# Altium footprint library Lib Marius.PcbLib: 393 footprints (part 10 of 25)
Each footprint in its own frame and in the unit in brackets; x right, y up, seen from the top. Pads: shape width x height; smd on the part's side, far side on the other; paste and mask are expansions set on the pad; w line width, h text height; cw(c..) or ccw(c..) is an arc to the next point about the centre after c.
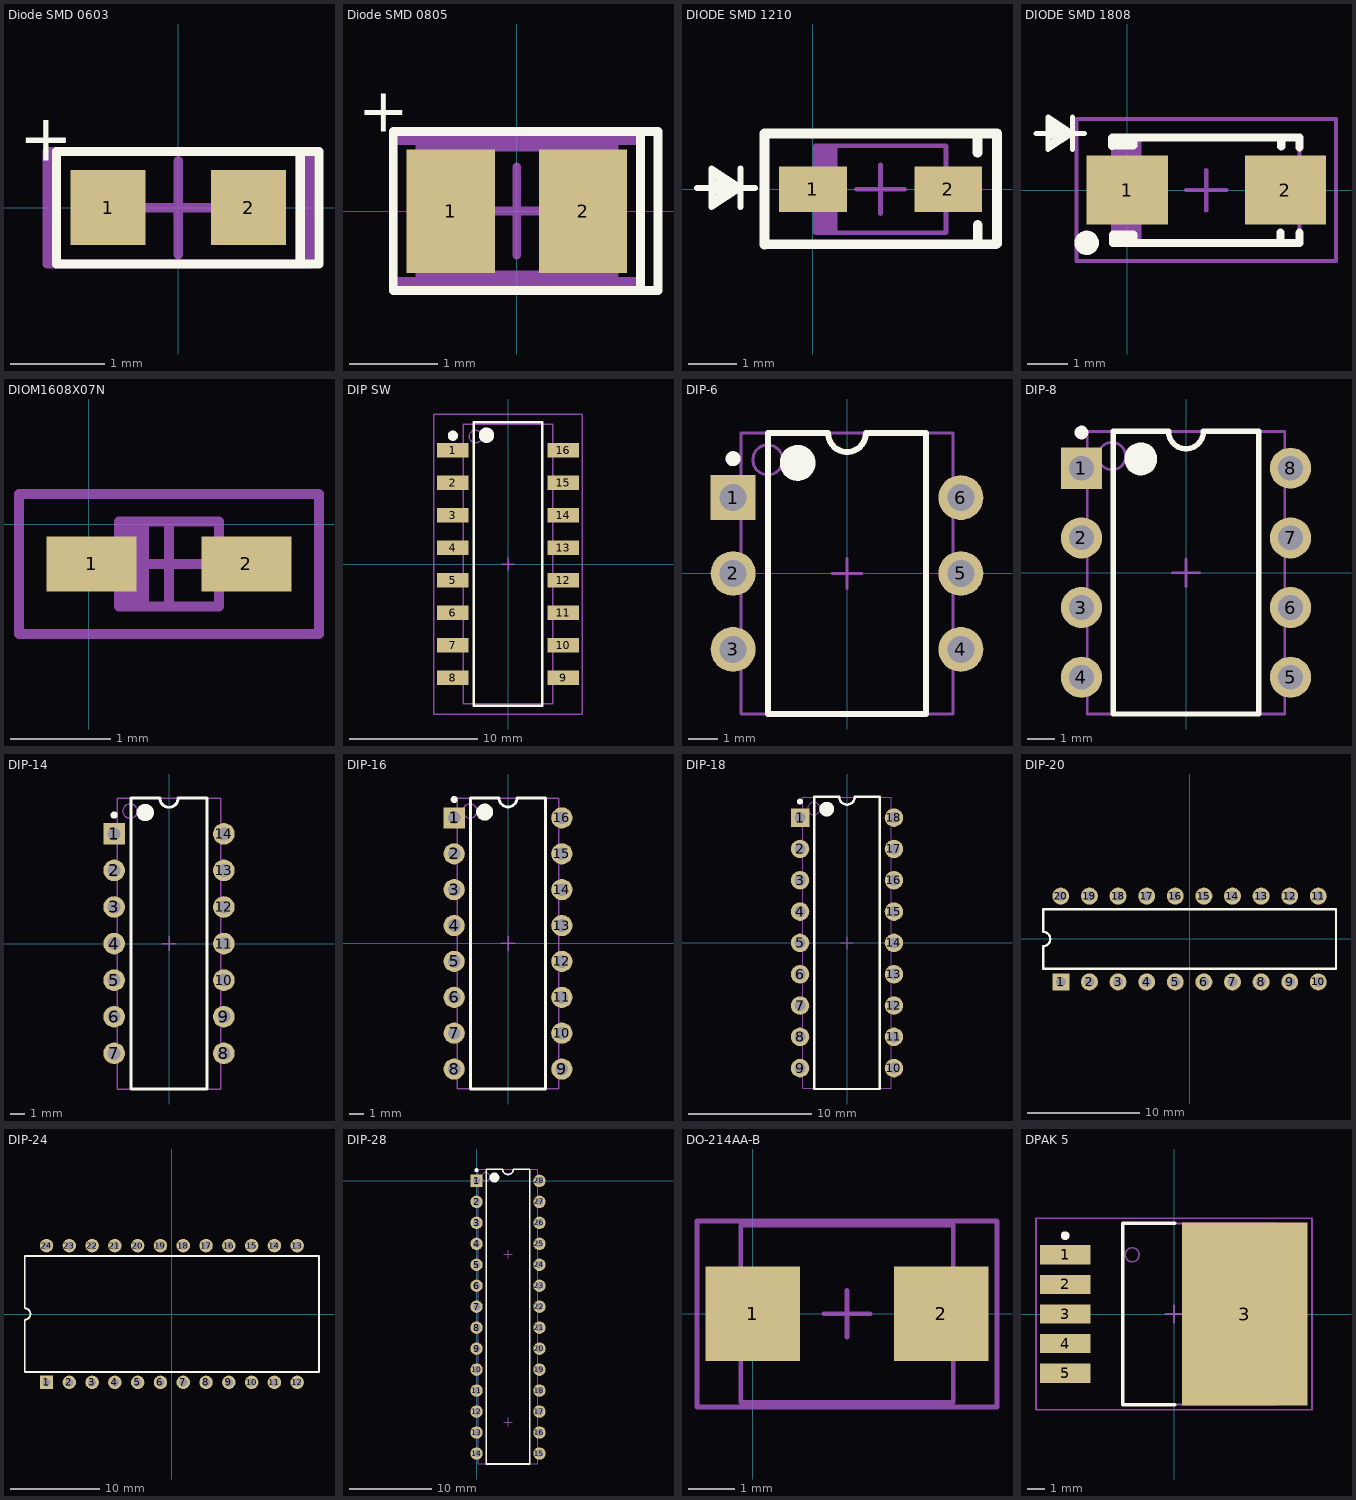
[diagram p9: the footprints below, top view; thin cyan lines are the x and y axes]

## Diode SMD 0603 [mm] "0603 Diode"
height 0.5
pads (2):
  rect 0.8x0.8 smd: 1(-0.75,0) 2(0.75,0)
Top Overlay:
  lines w0.1: 1.3,-0.6 1.5,-0.6 1.5,0.6 1.3,0.6 ; 1.3,-0.6 1.3,0.6 ; 1.3,-0.6 -1.3,-0.6 -1.3,0.6 1.3,0.6
  text "+" at -1.7,0.5 h0.5
Mechanical 1:
  lines w0.1: -1.3,-0.6 -1.3,0.6 ; 1.3,-0.6 1.3,0.6
Mechanical 13:
  lines w0.1: -1.3,-0.6 1.3,-0.6 ; -1.3,0.6 1.3,0.6
Mechanical 15:
  lines w0.1: -0.5,0 0.5,0 ; 0,-0.5 0,0.5 ; -1.4,-0.6 1.4,-0.6 1.4,0.6 -1.4,0.6 -1.4,-0.6
3D body: height 0.5, standoff 0, extent -0.8,-0.4 0.8,0.4

## Diode SMD 0805 [mm] "0805 Diode"
height 0.5
pads (2):
  rect 1x1.4 smd: 1(-0.75,0) 2(0.75,0)
Top Overlay:
  lines w0.1: 1.4,-0.9 1.6,-0.9 1.6,0.9 1.4,0.9 ; 1.4,-0.9 1.4,0.9 ; 1.4,-0.9 -1.4,-0.9 -1.4,0.9 1.4,0.9
  text "+" at -1.8,0.9 h0.5
Mechanical 13:
  lines w0.1: -1.1,-0.725 1.1,-0.725 1.1,0.725 -1.1,0.725 -1.1,-0.725
Mechanical 15:
  lines w0.1: -0.5,0 0.5,0 ; 0,-0.5 0,0.5 ; -1.4,-0.8 1.4,-0.8 1.4,0.8 -1.4,0.8 -1.4,-0.8
3D body: height 0.5, standoff 0, extent -1,-0.662 1,0.663

## DIODE SMD 1210 [mm] "DIODE SMD 1210"
height 0.99
pads (2):
  rect 1.4x0.95 smd: 1(0,0) 2(2.8,0)
Top Overlay:
  lines w0.127: -2.4,0.023 -2.1,0.023 ; -2.1,0.063 -1.5,0.063 ; -2.06,-0.197 -1.5,0.03 ; -2.06,0.257 -1.5,0.03 ; -2.05,-0.057 -1.5,0.053 ; -2.05,0.117 -1.5,0.007 ; -1.5,-0.37 -1.5,0.43 ; -1.5,0.023 -1.2,0.023 ; -1.5,0.03 -2.1,0.43 -2.1,-0.37 -1.5,0.03
  lines w0.2: -1.003,1.144 -1.003,-1.148 -0.995,-1.14 3.791,-1.14 3.807,-1.124 3.807,1.16 3.799,1.152 -1.003,1.152 ; 3.402,0.755 3.402,1.071 ; 3.41,-1.075 3.41,-0.735
Mechanical 13:
  region: 0.05,-0.9 0.5,-0.9 0.5,0.9 0.05,0.9
  lines w0.1: 0.05,-0.4 -0.4,-0.4 -0.4,0.4 0.05,0.4 ; 0.1,-0.8 0.1,0.8 ; 2.75,-0.4 3.2,-0.4 3.2,0.4 2.75,0.4 ; 0.05,-0.9 0.05,0.9 2.75,0.9 2.75,-0.9 0.05,-0.9
Mechanical 15:
  lines w0.1: 0.9,0 1.9,0 ; 1.4,-0.5 1.4,0.5 ; -1,-1.15 -1,1.15 3.8,1.15 3.8,-1.15 -1,-1.15
3D body: height 1.16, standoff 1.15, extent 0.101,-0.799 0.399,0.799
3D body "SW3dPS-sod-123.step": height 1.15, standoff 0, extent -0.45,-0.8 3.25,0.8

## DIODE SMD 1808 [mm] "DIODE SMD 1808"
height 2.62
pads (2):
  rect 2x1.7 smd: 1(0,0) 2(3.9,0)
Top Overlay:
  circle w0.3: c-1,-1.3 r0.15
  lines w0.127: -2.25,1.4 -1.95,1.4 ; -1.95,1.44 -1.35,1.44 ; -1.91,1.18 -1.35,1.407 ; -1.91,1.633 -1.35,1.407 ; -1.9,1.32 -1.35,1.43 ; -1.9,1.493 -1.35,1.383 ; -1.35,1.007 -1.35,1.807 ; -1.35,1.4 -1.05,1.4 ; -1.35,1.407 -1.95,1.807 -1.95,1.007 -1.35,1.407
  lines w0.2: -0.373,1.088 -0.373,1.286 -0.362,1.296 ; -0.35,1.1 0.15,1.1 0.15,1.3 ; -0.35,1.3 4.25,1.3 4.25,1.05 ; -0.15,-1.3 -0.35,-1.3 ; 0.15,-1.3 0.15,-1.1 -0.35,-1.1 -0.35,-1.3 ; 3.778,-1.04 3.778,-1.249 3.799,-1.269 ; 3.799,1.077 3.799,1.223 ; 4.25,-1.05 4.25,-1.3 -0.35,-1.3
Mechanical 13:
  region: -0.35,-1.3 -0.35,1.3 0.35,1.3 0.35,-1.3
  lines w0.1: -0.35,-0.7 -0.65,-0.7 -0.65,0.7 -0.35,0.7 ; 4.25,-0.7 4.55,-0.7 4.55,0.7 4.25,0.7 ; -0.35,-1.3 4.25,-1.3 4.25,1.3 -0.35,1.3 -0.35,-1.3
Mechanical 15:
  lines w0.1: 1.45,0 2.45,0 ; 1.95,-0.5 1.95,0.5 ; -1.25,-1.75 5.15,-1.75 5.15,1.75 -1.25,1.75 -1.25,-1.75
3D body "SW3dPS-DO-214AC SMA.STEP": height 2.39, standoff -0.01, extent -0.65,-1.3 4.55,1.3

## DIOM1608X07N [mm] "Molded Diode, 2-Leads, Body 1.6x0.8mm, IPC Medium Density, Alternate Polarity"
height 0.7
pads (2):
  rect 0.9x0.55 smd: 1(0.025,-0.399) 2(1.575,-0.399)
Mechanical 13:
  region: 0.6,0.026 0.351,0.026 0.351,-0.823 0.6,-0.823
  lines w0.1: 0.3,-0.599 0,-0.599 0,-0.199 0.3,-0.199 ; 1.3,-0.599 1.6,-0.599 1.6,-0.199 1.3,-0.199 ; 0.3,-0.824 1.3,-0.824 1.3,0.026 0.3,0.026 0.3,-0.824
Mechanical 15:
  lines w0.1: 0.375,-0.399 1.225,-0.399 ; 0.8,-0.824 0.8,0.026 ; -0.7,-1.099 2.3,-1.099 2.3,0.301 -0.7,0.301 -0.7,-1.099
3D body "SOD-523F.step": height 0.7, standoff 0, extent 0,-0.798 1.6,0

## DIP SW [mm] "Surface Mount DIP Switch, 8-way, Gull Wing Leads"
height 3.85
pads (16):
  rect 2.44x1.13 smd: 1(-4.3,8.89) 2(-4.3,6.35) 3(-4.3,3.81) 4(-4.3,1.27) 5(-4.3,-1.27) 6(-4.3,-3.81) 7(-4.3,-6.35) 8(-4.3,-8.89) 9(4.3,-8.89) 10(4.3,-6.35) 11(4.3,-3.81) 12(4.3,-1.27) 13(4.3,1.27) 14(4.3,3.81) 15(4.3,6.35) 16(4.3,8.89)
Top Overlay:
  circle w0.4: c-4.3,10.005 r0.2
  circle w0.6: c-1.68,10.045 r0.3
  lines w0.2: -2.68,-11.045 -2.68,11.045 2.68,11.045 2.68,-11.045 -2.68,-11.045
Mechanical 13:
  circle w0.1: c-2.525,9.945 r0.5
  lines w0.1: -3.475,-10.895 -3.475,10.895 3.475,10.895 3.475,-10.895 -3.475,-10.895
  text ".Designator" at 0.3,-4 h0.8
Mechanical 15:
  lines w0.1: -0.5,0 0.5,0 ; 0,-0.5 0,0.5 ; -5.8,-11.7 -5.8,11.7 5.8,11.7 5.8,-11.7 -5.8,-11.7
3D body "dipswitch254.stp": height 3.37, standoff -0.14, extent -5.103,-11.404 5.08,11.404

## DIP-6 [mm] "DIP; 6 Leads; Row Spacing 7.62 mm; Pitch 2.54 mm"
height 5.46
pads (6):
  rect 1.5x1.5 hole 0.9: 1(-3.81,2.54)
  round 1.5 hole 0.9: 2(-3.81,0) 3(-3.81,-2.54) 4(3.81,-2.54) 5(3.81,0) 6(3.81,2.54)
Top Overlay:
  circle w0.25: c-3.81,3.84 r0.125
  circle w0.6: c-1.65,3.7 r0.3
  lines w0.2: -2.65,-4.7 -2.65,4.7 -0.635,4.7 ccw(c0,4.7) 0.635,4.7 2.65,4.7 2.65,-4.7 -2.65,-4.7
Mechanical 13:
  circle w0.1: c-2.65,3.8 r0.5
  lines w0.1: -3.55,-4.7 -3.55,4.7 3.55,4.7 3.55,-4.7 -3.55,-4.7
Mechanical 15:
  lines w0.1: -0.5,0 0.5,0 ; 0,-0.5 0,0.5
3D body: height 5.46, standoff 0, extent -3.55,-4.7 3.55,4.7

## DIP-8 [mm] "DIP; 8 Leads; Row Spacing 7.62 mm; Pitch 2.54 mm"
height 5.08
pads (8):
  rect 1.5x1.5 hole 0.9: 1(-3.81,3.81)
  round 1.5 hole 0.9: 2(-3.81,1.27) 3(-3.81,-1.27) 4(-3.81,-3.81) 5(3.81,-3.81) 6(3.81,-1.27) 7(3.81,1.27) 8(3.81,3.81)
Top Overlay:
  circle w0.6: c-1.65,4.15 r0.3
  circle w0.25: c-3.81,5.11 r0.125
  lines w0.2: -2.65,-5.15 2.65,-5.15 2.65,5.15 0.635,5.15 cw(c0,5.15) -0.635,5.15 -2.65,5.15 -2.65,-5.15
Mechanical 13:
  circle w0.1: c-2.7,4.25 r0.5
  lines w0.1: -3.6,-5.15 3.6,-5.15 3.6,5.15 -3.6,5.15 -3.6,-5.15
Mechanical 15:
  lines w0.1: -0.5,0 0.5,0 ; 0,-0.5 0,0.5
3D body "DIP8.STEP": height 3.85, standoff -2, extent -3.935,-4.6 3.935,4.6

## DIP-14 [mm] "DIP; 14 Leads; Row Spacing 7.62 mm; Pitch 2.54 mm"
height 5.08
pads (14):
  rect 1.5x1.5 hole 0.9: 1(-3.81,7.62)
  round 1.5 hole 0.9: 2(-3.81,5.08) 3(-3.81,2.54) 4(-3.81,0) 5(-3.81,-2.54) 6(-3.81,-5.08) 7(-3.81,-7.62) 8(3.81,-7.62) 9(3.81,-5.08) 10(3.81,-2.54) 11(3.81,0) 12(3.81,2.54) 13(3.81,5.08) 14(3.81,7.62)
Top Overlay:
  circle w0.25: c-3.81,8.92 r0.125
  circle w0.6: c-1.65,9.1 r0.3
  lines w0.2: -2.65,-10.1 -2.65,10.1 -0.635,10.1 ccw(c0,10.1) 0.635,10.1 2.65,10.1 2.65,-10.1 -2.65,-10.1
Mechanical 13:
  circle w0.1: c-2.7,9.2 r0.5
  lines w0.1: -3.6,-10.1 -3.6,10.1 3.6,10.1 3.6,-10.1 -3.6,-10.1
Mechanical 15:
  lines w0.1: -0.5,0 0.5,0 ; 0,-0.5 0,0.5
3D body: height 5.08, standoff 0, extent -3.6,-10.1 3.6,10.1

## DIP-16 [mm] "DIP; 16 Leads; Row Spacing 7.62 mm; Pitch 2.54 mm"
height 5.08
pads (16):
  rect 1.5x1.5 hole 0.9: 1(-3.81,8.89)
  round 1.5 hole 0.9: 2(-3.81,6.35) 3(-3.81,3.81) 4(-3.81,1.27) 5(-3.81,-1.27) 6(-3.81,-3.81) 7(-3.81,-6.35) 8(-3.81,-8.89) 9(3.81,-8.89) 10(3.81,-6.35) 11(3.81,-3.81) 12(3.81,-1.27) 13(3.81,1.27) 14(3.81,3.81) 15(3.81,6.35) 16(3.81,8.89)
Top Overlay:
  circle w0.6: c-1.65,9.3 r0.3
  circle w0.25: c-3.81,10.19 r0.125
  lines w0.2: -2.65,-10.3 2.65,-10.3 2.65,10.3 0.635,10.3 cw(c0,10.3) -0.635,10.3 -2.65,10.3 -2.65,-10.3
Mechanical 13:
  circle w0.1: c-2.7,9.375 r0.5
  lines w0.1: -3.6,-10.275 3.6,-10.275 3.6,10.275 -3.6,10.275 -3.6,-10.275
Mechanical 15:
  lines w0.1: -0.5,0 0.5,0 ; 0,-0.5 0,0.5
3D body: height 5.08, standoff 0, extent -3.6,-10.275 3.6,10.275

## DIP-18 [mm] "DIP; 18 Leads; Row Spacing 7.62 mm; Pitch 2.54 mm"
height 5.08
pads (18):
  rect 1.5x1.5 hole 0.9: 1(-3.81,10.16)
  round 1.5 hole 0.9: 2(-3.81,7.62) 3(-3.81,5.08) 4(-3.81,2.54) 5(-3.81,0) 6(-3.81,-2.54) 7(-3.81,-5.08) 8(-3.81,-7.62) 9(-3.81,-10.16) 10(3.81,-10.16) 11(3.81,-7.62) 12(3.81,-5.08) 13(3.81,-2.54) 14(3.81,0) 15(3.81,2.54) 16(3.81,5.08) 17(3.81,7.62) 18(3.81,10.16)
Top Overlay:
  circle w0.25: c-3.81,11.46 r0.125
  circle w0.6: c-1.65,10.85 r0.3
  lines w0.2: -2.65,-11.85 -2.65,11.85 -0.635,11.85 ccw(c0,11.85) 0.635,11.85 2.65,11.85 2.65,-11.85 -2.65,-11.85
Mechanical 13:
  circle w0.1: c-2.7,10.9 r0.5
  lines w0.1: -3.6,-11.8 -3.6,11.8 3.6,11.8 3.6,-11.8 -3.6,-11.8
Mechanical 15:
  lines w0.1: -0.5,0 0.5,0 ; 0,-0.5 0,0.5
3D body: height 5.08, standoff 0, extent -3.6,-11.8 3.6,11.8

## DIP-20 [mm] "DIP; 20 Leads; Row Spacing 7.62 mm; Pitch 2.54 mm"
height 5.08
pads (20):
  rect 1.5x1.5 hole 0.9: 1(-11.43,-3.81)
  round 1.5 hole 0.9: 2(-8.89,-3.81) 3(-6.35,-3.81) 4(-3.81,-3.81) 5(-1.27,-3.81) 6(1.27,-3.81) 7(3.81,-3.81) 8(6.35,-3.81) 9(8.89,-3.81) 10(11.43,-3.81) 11(11.43,3.81) 12(8.89,3.81) 13(6.35,3.81) 14(3.81,3.81) 15(1.27,3.81) 16(-1.27,3.81) 17(-3.81,3.81) 18(-6.35,3.81) 19(-8.89,3.81) 20(-11.43,3.81)
Top Overlay:
  lines w0.2: -13,-2.65 13,-2.65 13,2.65 -13,2.65 -13,0.635 cw(c-13,0) -13,-0.635 -13,-2.65

## DIP-24 [mm] "DIP; 24 Leads; Row Spacing 15.24 mm; Pitch 2.54 mm"
height 5.59
pads (24):
  rect 1.5x1.5 hole 0.9: 1(-13.97,-7.62)
  round 1.5 hole 0.9: 2(-11.43,-7.62) 3(-8.89,-7.62) 4(-6.35,-7.62) 5(-3.81,-7.62) 6(-1.27,-7.62) 7(1.27,-7.62) 8(3.81,-7.62) 9(6.35,-7.62) 10(8.89,-7.62) 11(11.43,-7.62) 12(13.97,-7.62) 13(13.97,7.62) 14(11.43,7.62) 15(8.89,7.62) 16(6.35,7.62) 17(3.81,7.62) 18(1.27,7.62) 19(-1.27,7.62) 20(-3.81,7.62) 21(-6.35,7.62) 22(-8.89,7.62) 23(-11.43,7.62) 24(-13.97,7.62)
Top Overlay:
  lines w0.2: -16.4,-6.45 -16.4,-0.635 ccw(c-16.4,0) -16.4,0.635 -16.4,6.45 16.4,6.45 16.4,-6.45 -16.4,-6.45

## DIP-28 [mm] "DIP; 16 Leads; Row Spacing 7.62 mm; Pitch 2.54 mm"
height 5.08
pads (28):
  rect 1.5x1.5 hole 0.9: 1(-0.01,-0.01)
  round 1.5 hole 0.9: 2(-0.01,-2.55) 3(-0.01,-5.09) 4(-0.01,-7.63) 5(-0.01,-10.17) 6(-0.01,-12.71) 7(-0.01,-15.25) 8(-0.01,-17.79) 9(-0.01,-20.33) 10(-0.01,-22.87) 11(-0.01,-25.41) 12(-0.01,-27.95) 13(-0.01,-30.49) 14(-0.01,-33.03) 15(7.61,-33.03) 16(7.61,-30.49) 17(7.61,-27.95) 18(7.61,-25.41) 19(7.61,-22.87) 20(7.61,-20.33) 21(7.61,-17.79) 22(7.61,-15.25) 23(7.61,-12.71) 24(7.61,-10.17) 25(7.61,-7.63) 26(7.61,-5.09) 27(7.61,-2.55) 28(7.61,-0.01)
Top Overlay:
  circle w0.25: c-0.01,1.29 r0.125
  circle w0.6: c2.15,0.4 r0.3
  lines w0.2: 1.15,-19.2 1.15,1.4 3.165,1.4 ccw(c3.8,1.4) 4.435,1.4 6.45,1.4 6.45,-19.2 ; 1.15,-18.92 1.15,-34.3 6.45,-34.3 6.45,-18.92
Mechanical 13:
  circle w0.1: c1.1,0.475 r0.5
  lines w0.1: 0.2,-19.175 0.2,1.375 7.4,1.375 7.4,-19.175 ; 0.2,-18.945 0.2,-34.3 7.4,-34.3 7.4,-18.945
Mechanical 15:
  lines w0.1: 3.3,-29.22 4.3,-29.22 ; 3.3,-8.9 4.3,-8.9 ; 3.8,-29.72 3.8,-28.72 ; 3.8,-9.4 3.8,-8.4

## DO-214AA-B [mil] "Diode, 2-Leads, Body 4.3x3.6mm, IPC Medium Density"
height 94.88
pads (2):
  rect 80x80 smd mask+5: 1(0,0) 2(160,0)
Mechanical 1:
  lines w3.94: -9.96,-75 -9.96,75 169.96,75 169.96,-75 -9.96,-75
Mechanical 15:
  lines w3.94: 60.31,0 99.69,0 ; 80,-19.68 80,19.68 ; -47,-79 -47,78.5 207,78.5 207,-79 -47,-79
3D body "DO-214AA-B.stp": height 90.55, standoff 0, extent -27.6,-71 185,70.73

## DPAK 5 [mm] "D2-PAK, 6-Pads, Body 8.9x10.4mm (max), IPC Medium Density"
height 4.65
pads (6):
  rect 2.9x1.1 smd: 1(-6.25,3.4) 2(-6.25,1.7) 3(-6.25,0) 4(-6.25,-1.7) 5(-6.25,-3.4)
  rect 7.2x10.5 smd paste-4: 3(4.05,0)
Top Overlay:
  circle w0.25: c-6.25,4.5 r0.125
  lines w0.2: 0.05,-5.2 -2.95,-5.2 -2.95,5.2 0.05,5.2
Top Paste:
  rectangle: 0.5,0.2 3.9,5.2
  rectangle: 0.5,-5.2 3.9,-0.2
  rectangle: 4.2,-5.2 7.6,-0.2
  rectangle: 4.2,0.2 7.6,5.2
Mechanical 13:
  circle w0.1: c-2.4,3.4 r0.4
  lines w0.1: -2.95,-5.2 -2.95,5.2 5.94,5.2 5.94,-5.2 -2.95,-5.2
  text ".Designator" at -2.5,1.6 h0.8
Mechanical 15:
  lines w0.1: -0.5,0 0.5,0 ; 0,-0.5 0,0.5 ; -7.925,-5.5 -7.925,5.5 7.925,5.5 7.925,-5.5 -7.925,-5.5
3D body "SW3dPS-TO-263 5Ld.STEP": height 4.57, standoff -0.01, extent -7.12,-5.1 7.52,5.06